# EAGLE library part SX1255 (library IC_Wireless-RF)
SX1255 - Low Power Digital I and Q RF Multi-PHY Mode Transceiver Datasheet <https://semtech.my.salesforce.com/sfc/p/#E0000000JelG/a/44000000MDmE/Qs9oRoa8Sbb6mkImE9mtMh47H5LFx6KMbGcpb8L28SE> Product Page <https://www.semtech.com/products/wireless-rf/lora-core/sx1255>
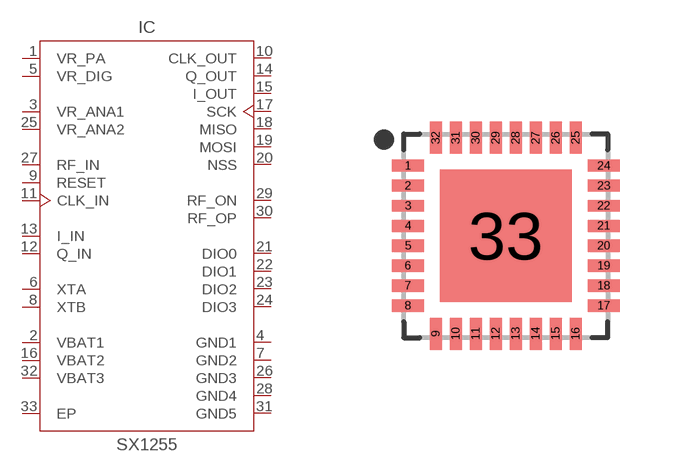
[diagram p4: symbol with the pads of QFN50P500X500X80-33T330; footprint QFN50P500X500X80-33T330]

Designator prefix IC

## SX1255 (CATEGORY: IC_Wireless-RF; DESCRIPTION: IC RF TXRX 802.15.4 32WFQFN; FREQUENCY: 400MHz ~ 510MHz; MANUFACTURER: Semtech; MPN: SX1255IWLTRT; OPERATING_TEMP: -40°C to 85°C; PART_STATUS: Active; SERIES: SX1255; SUB-CATEGORY: Transceiver; TYPE: LoRa Core™; VALUE: SX1255)  [QFN50P500X500X80-33T330]
1  VR_PA  pwr
2  VBAT1  pwr
3  VR_ANA1  pwr
4  GND1  pwr
5  VR_DIG  pwr
6  XTA
7  GND2  pwr
8  XTB
9  RESET
10  CLK_OUT  out
11  CLK_IN  in
12  Q_IN  in
13  I_IN  in
14  Q_OUT  out
15  I_OUT  out
16  VBAT2  pwr
17  SCK  in
18  MISO  out
19  MOSI  in
20  NSS  in
21  DIO0  out
22  DIO1  out
23  DIO2  out
24  DIO3  out
25  VR_ANA2  pwr
26  GND3  pwr
27  RF_IN  in
28  GND4  pwr
29  RF_ON  out
30  RF_OP  out
31  GND5  pwr
32  VBAT3  pwr
33  EP  pwr

## Footprint QFN50P500X500X80-33T330 (pad centres in mm)
32-QFN, 0.50 mm pitch, 5.00 X 5.00 X 0.80 mm body, 3.30 X 3.30 mm thermal pad 32-pin QFN package with 0.50 mm pitch with body size 5.00 X 5.00 X 0.80 mm and thermal pad size 3.30 X 3.30 mm
smd 0.8 x 0.3: 1 -2.45,1.75; 2 -2.45,1.25; 3 -2.45,0.75; 4 -2.45,0.25; 5 -2.45,-0.25; 6 -2.45,-0.75; 7 -2.45,-1.25; 8 -2.45,-1.75; 17 2.45,-1.75; 18 2.45,-1.25; 19 2.45,-0.75; 20 2.45,-0.25; 21 2.45,0.25; 22 2.45,0.75; 23 2.45,1.25; 24 2.45,1.75
smd 0.3 x 0.8: 9 -1.75,-2.45; 10 -1.25,-2.45; 11 -0.75,-2.45; 12 -0.25,-2.45; 13 0.25,-2.45; 14 0.75,-2.45; 15 1.25,-2.45; 16 1.75,-2.45; 25 1.75,2.45; 26 1.25,2.45; 27 0.75,2.45; 28 0.25,2.45; 29 -0.25,2.45; 30 -0.75,2.45; 31 -1.25,2.45; 32 -1.75,2.45
smd 3.3 x 3.3: 33 0,0